# Altium integrated library TMK212B7105KGHTR.IntLib: 1 symbol
Pins are listed as number, name and electrical type; pins without a type are passive.

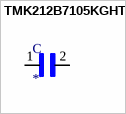
[diagram p0: symbol TMK212B7105KGHTR]

## TMK212B7105KGHTR
designator C
1ÂµF Â±10% 25V Ceramic Capacitor X7R 0805 _2012 Metric_; MF: Taiyo Yuden; MP: TMK212B7105KGHTR; Digi-Key_Part_Number: 587-6357-1-ND; Package: 2012 Taiyo Yuden; SnapEDA_Link: https://www.snapeda.com/parts/TMK212B7105KGHTR/Taiyo%20Yuden/view-part/1813294/?ref=snap; Digi-Key_Purchase_URL: https://www.digikey.ca/product-detail/en/taiyo-yuden/TMK212B7105KGHTR/587-6357-1-ND/9949943?utm_source=snapeda&utm_medium=aggregator&utm_campaign=symbol; Value: *
footprint CAPC2012X135N
pins: 1, 2